# EAGLE library part STM32F77XXX (library stm32f)
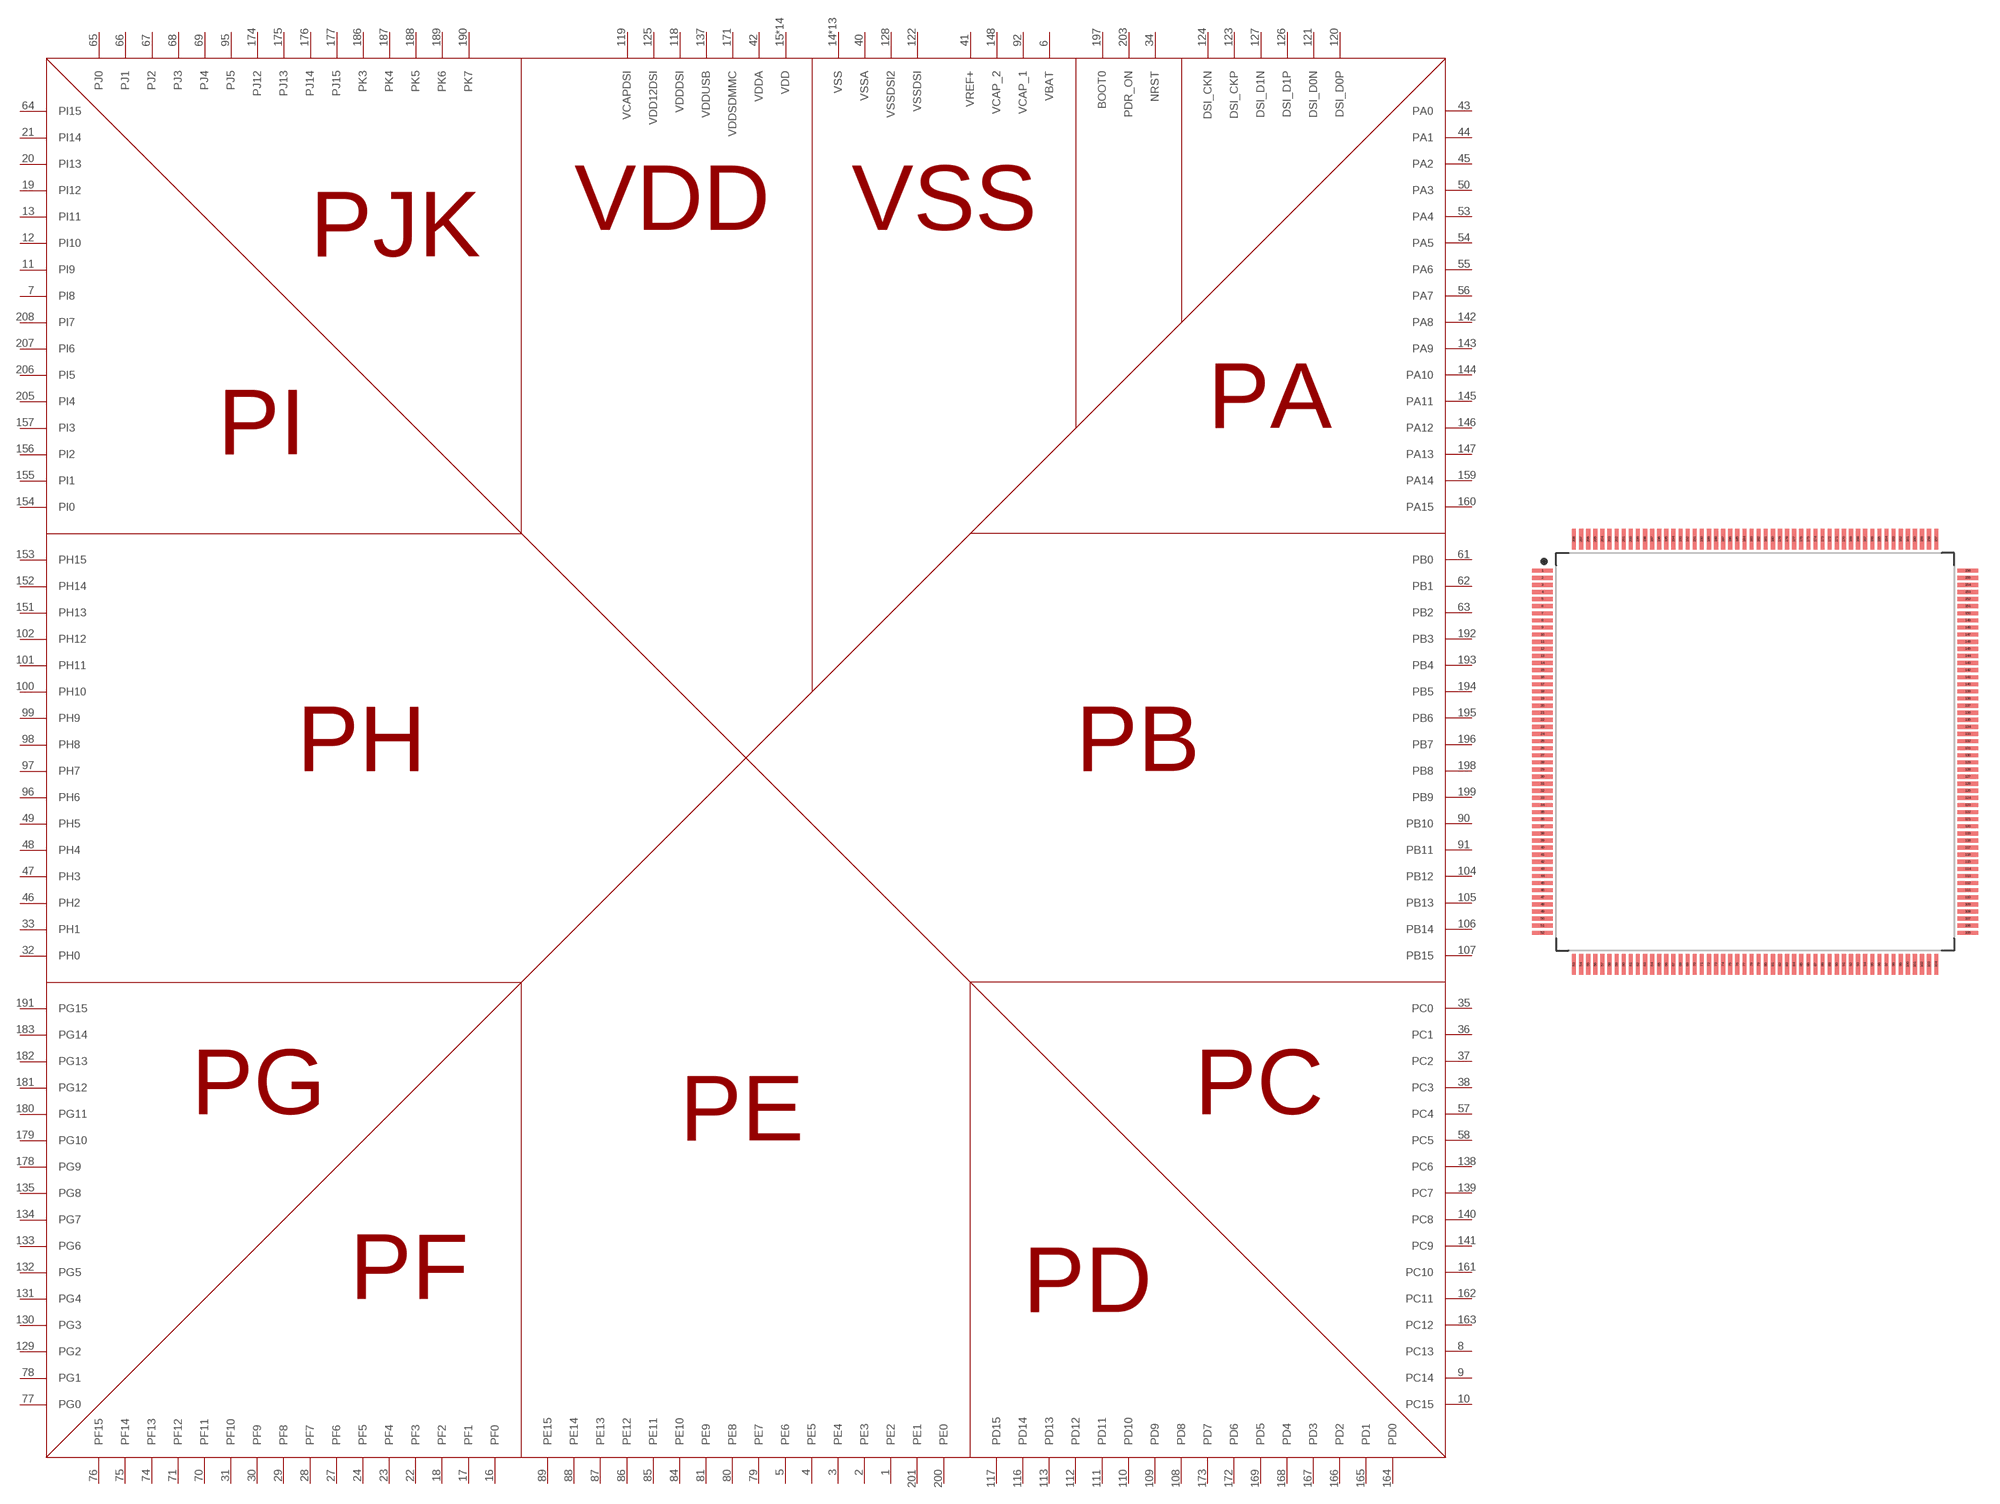
[diagram p3: symbol with the pads of QFP50P3060X3060X385-208; footprint QFP50P3060X3060X385-208]

Designator prefix -

## STM32F77XXXLQFP208  [QFP50P3060X3060X385-208]
1  PE2
2  PE3
3  PE4
4  PE5
5  PE6
6  VBAT
7  PI8
8  PC13
9  PC14
10  PC15
11  PI9
12  PI10
13  PI11
14  VSS
15  VDD
16  PF0
17  PF1
18  PF2
19  PI12
20  PI13
21  PI14
22  PF3
23  PF4
24  PF5
25  VSS
26  VDD
27  PF6
28  PF7
29  PF8
30  PF9
31  PF10
32  PH0
33  PH1
34  NRST
35  PC0
36  PC1
37  PC2
38  PC3
39  VDD
40  VSSA
41  VREF+
42  VDDA
43  PA0
44  PA1
45  PA2
46  PH2
47  PH3
48  PH4
49  PH5
50  PA3
51  VSS
52  VDD
53  PA4
54  PA5
55  PA6
56  PA7
57  PC4
58  PC5
59  VDD
60  VSS
61  PB0
62  PB1
63  PB2
64  PI15
65  PJ0
66  PJ1
67  PJ2
68  PJ3
69  PJ4
70  PF11
71  PF12
72  VSS
73  VDD
74  PF13
75  PF14
76  PF15
77  PG0
78  PG1
79  PE7
80  PE8
81  PE9
82  VSS
83  VDD
84  PE10
85  PE11
86  PE12
87  PE13
88  PE14
89  PE15
90  PB10
91  PB11
92  VCAP_1
93  VSS
94  VDD
95  PJ5
96  PH6
97  PH7
98  PH8
99  PH9
100  PH10
101  PH11
102  PH12
103  VDD
104  PB12
105  PB13
106  PB14
107  PB15
108  PD8
109  PD9
110  PD10
111  PD11
112  PD12
113  PD13
114  VSS
115  VDD
116  PD14
117  PD15
118  VDDDSI
119  VCAPDSI
120  DSI_D0P
121  DSI_D0N
122  VSSDSI
123  DSI_CKP
124  DSI_CKN
125  VDD12DSI
126  DSI_D1P
127  DSI_D1N
128  VSSDSI2
129  PG2
130  PG3
131  PG4
132  PG5
133  PG6
134  PG7
135  PG8
136  VSS
137  VDDUSB
138  PC6
139  PC7
140  PC8
141  PC9
142  PA8
143  PA9
144  PA10
145  PA11
146  PA12
147  PA13
148  VCAP_2
149  VSS
150  VDD
151  PH13
152  PH14
153  PH15
154  PI0
155  PI1
156  PI2
157  PI3
158  VDD
159  PA14
160  PA15
161  PC10
162  PC11
163  PC12
164  PD0
165  PD1
166  PD2
167  PD3
168  PD4
169  PD5
170  VSS
171  VDDSDMMC
172  PD6
173  PD7
174  PJ12
175  PJ13
176  PJ14
177  PJ15
178  PG9
179  PG10
180  PG11
181  PG12
182  PG13
183  PG14
184  VSS
185  VDD
186  PK3
187  PK4
188  PK5
189  PK6
190  PK7
191  PG15
192  PB3
193  PB4
194  PB5
195  PB6
196  PB7
197  BOOT0
198  PB8
199  PB9
200  PE0
201  PE1
202  VSS
203  PDR_ON
204  VDD
205  PI4
206  PI5
207  PI6
208  PI7

## Footprint QFP50P3060X3060X385-208 (pad centres in mm)
208-QFP, 0.50 mm pitch, 30.60 mm span, 28.00 X 28.00 X 3.85 mm body 208-pin QFP package with 0.50 mm pitch, 30.60 mm lead span1 X 30.60 mm lead span2 with body size 28.00 X 28.00 X 3.85 mm
smd 1.469 x 0.28: 1 -14.971,12.75; 2 -14.971,12.25; 3 -14.971,11.75; 4 -14.971,11.25; 5 -14.971,10.75; 6 -14.971,10.25; 7 -14.971,9.75; 8 -14.971,9.25; 9 -14.971,8.75; 10 -14.971,8.25; 11 -14.971,7.75; 12 -14.971,7.25; 13 -14.971,6.75; 14 -14.971,6.25; 15 -14.971,5.75; 16 -14.971,5.25; 17 -14.971,4.75; 18 -14.971,4.25; 19 -14.971,3.75; 20 -14.971,3.25; 21 -14.971,2.75; 22 -14.971,2.25; 23 -14.971,1.75; 24 -14.971,1.25; 25 -14.971,0.75; 26 -14.971,0.25; 27 -14.971,-0.25; 28 -14.971,-0.75; 29 -14.971,-1.25; 30 -14.971,-1.75; 31 -14.971,-2.25; 32 -14.971,-2.75; 33 -14.971,-3.25; 34 -14.971,-3.75; 35 -14.971,-4.25; 36 -14.971,-4.75; 37 -14.971,-5.25; 38 -14.971,-5.75; 39 -14.971,-6.25; 40 -14.971,-6.75; 41 -14.971,-7.25; 42 -14.971,-7.75; 43 -14.971,-8.25; 44 -14.971,-8.75; 45 -14.971,-9.25; 46 -14.971,-9.75; 47 -14.971,-10.25; 48 -14.971,-10.75; 49 -14.971,-11.25; 50 -14.971,-11.75; 51 -14.971,-12.25; 52 -14.971,-12.75; 105 14.971,-12.75; 106 14.971,-12.25; 107 14.971,-11.75; 108 14.971,-11.25; 109 14.971,-10.75; 110 14.971,-10.25; 111 14.971,-9.75; 112 14.971,-9.25; 113 14.971,-8.75; 114 14.971,-8.25; 115 14.971,-7.75; 116 14.971,-7.25; 117 14.971,-6.75; 118 14.971,-6.25; 119 14.971,-5.75; 120 14.971,-5.25; 121 14.971,-4.75; 122 14.971,-4.25; 123 14.971,-3.75; 124 14.971,-3.25; 125 14.971,-2.75; 126 14.971,-2.25; 127 14.971,-1.75; 128 14.971,-1.25; 129 14.971,-0.75; 130 14.971,-0.25; 131 14.971,0.25; 132 14.971,0.75; 133 14.971,1.25; 134 14.971,1.75; 135 14.971,2.25; 136 14.971,2.75; 137 14.971,3.25; 138 14.971,3.75; 139 14.971,4.25; 140 14.971,4.75; 141 14.971,5.25; 142 14.971,5.75; 143 14.971,6.25; 144 14.971,6.75; 145 14.971,7.25; 146 14.971,7.75; 147 14.971,8.25; 148 14.971,8.75; 149 14.971,9.25; 150 14.971,9.75; 151 14.971,10.25; 152 14.971,10.75; 153 14.971,11.25; 154 14.971,11.75; 155 14.971,12.25; 156 14.971,12.75
smd 0.28 x 1.469: 53 -12.75,-14.971; 54 -12.25,-14.971; 55 -11.75,-14.971; 56 -11.25,-14.971; 57 -10.75,-14.971; 58 -10.25,-14.971; 59 -9.75,-14.971; 60 -9.25,-14.971; 61 -8.75,-14.971; 62 -8.25,-14.971; 63 -7.75,-14.971; 64 -7.25,-14.971; 65 -6.75,-14.971; 66 -6.25,-14.971; 67 -5.75,-14.971; 68 -5.25,-14.971; 69 -4.75,-14.971; 70 -4.25,-14.971; 71 -3.75,-14.971; 72 -3.25,-14.971; 73 -2.75,-14.971; 74 -2.25,-14.971; 75 -1.75,-14.971; 76 -1.25,-14.971; 77 -0.75,-14.971; 78 -0.25,-14.971; 79 0.25,-14.971; 80 0.75,-14.971; 81 1.25,-14.971; 82 1.75,-14.971; 83 2.25,-14.971; 84 2.75,-14.971; 85 3.25,-14.971; 86 3.75,-14.971; 87 4.25,-14.971; 88 4.75,-14.971; 89 5.25,-14.971; 90 5.75,-14.971; 91 6.25,-14.971; 92 6.75,-14.971; 93 7.25,-14.971; 94 7.75,-14.971; 95 8.25,-14.971; 96 8.75,-14.971; 97 9.25,-14.971; 98 9.75,-14.971; 99 10.25,-14.971; 100 10.75,-14.971; 101 11.25,-14.971; 102 11.75,-14.971; 103 12.25,-14.971; 104 12.75,-14.971; 157 12.75,14.971; 158 12.25,14.971; 159 11.75,14.971; 160 11.25,14.971; 161 10.75,14.971; 162 10.25,14.971; 163 9.75,14.971; 164 9.25,14.971; 165 8.75,14.971; 166 8.25,14.971; 167 7.75,14.971; 168 7.25,14.971; 169 6.75,14.971; 170 6.25,14.971; 171 5.75,14.971; 172 5.25,14.971; 173 4.75,14.971; 174 4.25,14.971; 175 3.75,14.971; 176 3.25,14.971; 177 2.75,14.971; 178 2.25,14.971; 179 1.75,14.971; 180 1.25,14.971; 181 0.75,14.971; 182 0.25,14.971; 183 -0.25,14.971; 184 -0.75,14.971; 185 -1.25,14.971; 186 -1.75,14.971; 187 -2.25,14.971; 188 -2.75,14.971; 189 -3.25,14.971; 190 -3.75,14.971; 191 -4.25,14.971; 192 -4.75,14.971; 193 -5.25,14.971; 194 -5.75,14.971; 195 -6.25,14.971; 196 -6.75,14.971; 197 -7.25,14.971; 198 -7.75,14.971; 199 -8.25,14.971; 200 -8.75,14.971; 201 -9.25,14.971; 202 -9.75,14.971; 203 -10.25,14.971; 204 -10.75,14.971; 205 -11.25,14.971; 206 -11.75,14.971; 207 -12.25,14.971; 208 -12.75,14.971